# Altium footprint library AltiumOpenLibs.PcbLib: 173 footprints (part 2 of 11)
Each footprint in its own frame and in the unit in brackets; x right, y up, seen from the top. Pads: shape width x height; smd on the part's side, far side on the other; paste and mask are expansions set on the pad; w line width, h text height; cw(c..) or ccw(c..) is an arc to the next point about the centre after c.
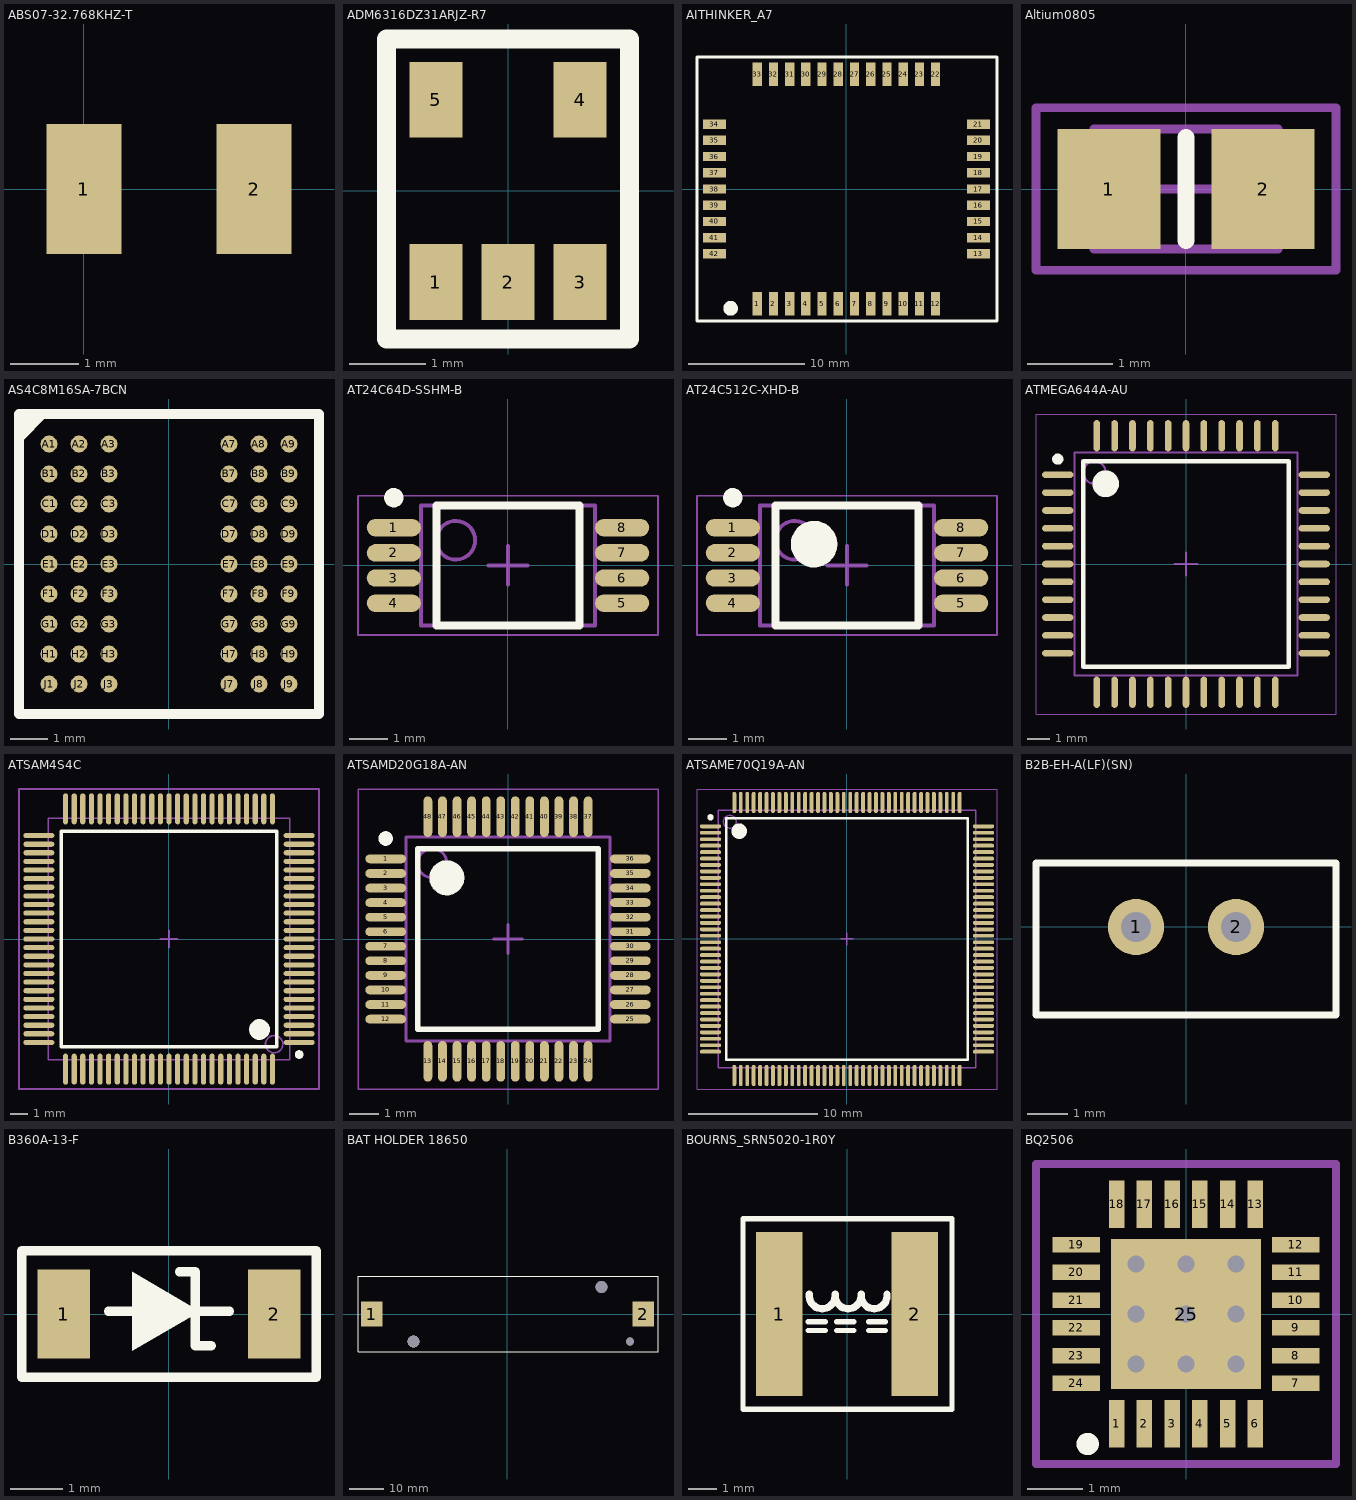
[diagram p1: the footprints below, top view; thin cyan lines are the x and y axes]

## ABS07-32.768KHZ-T [mm]
pads (2):
  rect 1.1x1.9 smd: 1(0,0) 2(2.5,0)
3D body: height 0.9, standoff 0, extent -0.35,-0.7 2.85,0.8

## ADM6316DZ31ARJZ-R7 [mm]
pads (5):
  rect 0.7x1 smd: 1(-0.95,-1.2) 2(0,-1.2) 3(0.95,-1.2) 4(0.95,1.2) 5(-0.95,1.2)
Top Overlay:
  lines w0.254: -1.6,-1.95 1.6,-1.95 1.6,2 -1.6,2 -1.6,-1.7 -1.6,-1.95

## AITHINKER_A7 [mm]
pads (42):
  rect 0.8x2 smd: 1(-7.7,-9.9) 2(-6.3,-9.9) 3(-4.9,-9.9) 4(-3.5,-9.9) 5(-2.1,-9.9) 6(-0.7,-9.9) 7(0.7,-9.9) 8(2.1,-9.9) 9(3.5,-9.9) 10(4.9,-9.9) 11(6.3,-9.9) 12(7.7,-9.9) 22(7.7,9.9) 23(6.3,9.9) 24(4.9,9.9) 25(3.5,9.9) 26(2.1,9.9) 27(0.7,9.9) 28(-0.7,9.9) 29(-2.1,9.9) 30(-3.5,9.9) 31(-4.9,9.9) 32(-6.3,9.9) 33(-7.7,9.9)
  rect 2x0.8 smd: 13(11.4,-5.6) 14(11.4,-4.2) 15(11.4,-2.8) 16(11.4,-1.4) 17(11.4,0) 18(11.4,1.4) 19(11.4,2.8) 20(11.4,4.2) 21(11.4,5.6) 34(-11.4,5.6) 35(-11.4,4.2) 36(-11.4,2.8) 37(-11.4,1.4) 38(-11.4,0) 39(-11.4,-1.4) 40(-11.4,-2.8) 41(-11.4,-4.2) 42(-11.4,-5.6)
Top Overlay:
  circle w0.7: c-10,-10.3 r0.283
  lines w0.254: -12.9,-11.4 -12.9,11.4 -7.4,11.4 13,11.4 13,-11.4 -10.8,-11.4 -12.9,-11.4

## Altium0805 [mm]
pads (2):
  rect 1.2x1.4 smd: 1(-0.9,0) 2(0.9,0)
Top Overlay:
  lines w0.2: 0,-0.6 0,0.6
Mechanical 13:
  lines w0.1: -1.075,-0.7 1.075,-0.7 1.075,0.7 -1.075,0.7 -1.075,-0.7
Mechanical 15:
  lines w0.1: -0.5,0 0.5,0 ; 0,-0.5 0,0.5 ; -1.75,-0.95 1.75,-0.95 1.75,0.95 -1.75,0.95 -1.75,-0.95
3D body: height 0.7, standoff 0, extent -1.075,-0.7 1.075,0.7

## AS4C8M16SA-7BCN [mm]
pads (54):
  round 0.45 smd: A1(-3.2,3.2) A2(-2.4,3.2) A3(-1.6,3.2) A7(1.6,3.2) A8(2.4,3.2) A9(3.2,3.2) B1(-3.2,2.4) B2(-2.4,2.4) B3(-1.6,2.4) B7(1.6,2.4) B8(2.4,2.4) B9(3.2,2.4) C1(-3.2,1.6) C2(-2.4,1.6) C3(-1.6,1.6) C7(1.6,1.6) C8(2.4,1.6) C9(3.2,1.6) D1(-3.2,0.8) D2(-2.4,0.8) D3(-1.6,0.8) D7(1.6,0.8) D8(2.4,0.8) D9(3.2,0.8) E1(-3.2,0) E2(-2.4,0) E3(-1.6,0) E7(1.6,0) E8(2.4,0) E9(3.2,0) F1(-3.2,-0.8) F2(-2.4,-0.8) F3(-1.6,-0.8) F7(1.6,-0.8) F8(2.4,-0.8) F9(3.2,-0.8) G1(-3.2,-1.6) G2(-2.4,-1.6) G3(-1.6,-1.6) G7(1.6,-1.6) G8(2.4,-1.6) G9(3.2,-1.6) H1(-3.2,-2.4) H2(-2.4,-2.4) H3(-1.6,-2.4) H7(1.6,-2.4) H8(2.4,-2.4) H9(3.2,-2.4) J1(-3.2,-3.2) J2(-2.4,-3.2) J3(-1.6,-3.2) J7(1.6,-3.2) J8(2.4,-3.2) J9(3.2,-3.2)
Top Overlay:
  region: -4,4 -3.2,4 -4,3.2
  lines w0.254: -4,-4 -4,4 4,4 4,-4 -4,-4

## AT24C64D-SSHM-B [mm] "TSOP, 8-Leads, Body 3.00x4.40mm, Pitch 0.65mm, IPC Medium Density"
height 1.2
pads (8):
  oval 1.4x0.45 smd: 1(-2.95,0.975) 2(-2.95,0.325) 3(-2.95,-0.325) 4(-2.95,-0.975) 5(2.95,-0.975) 6(2.95,-0.325) 7(2.95,0.325) 8(2.95,0.975)
Top Overlay:
  circle w0.25: c-2.95,1.75 r0.125
  lines w0.2: -1.85,-1.55 -1.85,1.55 1.85,1.55 1.85,-1.55 -1.85,-1.55
Mechanical 13:
  circle w0.1: c-1.35,0.65 r0.5
  lines w0.1: -2.25,-1.55 -2.25,1.55 2.25,1.55 2.25,-1.55 -2.25,-1.55
Mechanical 15:
  lines w0.05: -3.875,-1.8 -3.875,1.8 3.875,1.8 3.875,-1.8 -3.875,-1.8
  lines w0.1: -0.5,0 0.5,0 ; 0,-0.5 0,0.5
3D body: height 1.2, standoff 0.15, extent -2.25,-1.55 2.25,1.55

## AT24C512C-XHD-B [mm] "TSOP, 8-Leads, Body 3.00x4.40mm, Pitch 0.65mm, IPC Medium Density"
height 1.2
pads (8):
  oval 1.4x0.45 smd: 1(-2.95,0.975) 2(-2.95,0.325) 3(-2.95,-0.325) 4(-2.95,-0.975) 5(2.95,-0.975) 6(2.95,-0.325) 7(2.95,0.325) 8(2.95,0.975)
Top Overlay:
  circle w0.25: c-2.95,1.75 r0.125
  circle w0.6: c-0.85,0.55 r0.3
  lines w0.2: -1.85,-1.55 -1.85,1.55 1.85,1.55 1.85,-1.55 -1.85,-1.55
Mechanical 13:
  circle w0.1: c-1.35,0.65 r0.5
  lines w0.1: -2.25,-1.55 -2.25,1.55 2.25,1.55 2.25,-1.55 -2.25,-1.55
Mechanical 15:
  lines w0.05: -3.875,-1.8 -3.875,1.8 3.875,1.8 3.875,-1.8 -3.875,-1.8
  lines w0.1: -0.5,0 0.5,0 ; 0,-0.5 0,0.5
3D body: height 1.2, standoff 0.15, extent -2.25,-1.55 2.25,1.55

## ATMEGA644A-AU [mm] "TQFP, 44-Leads, Body 10.00x10.00mm, Pitch 0.80mm, IPC Medium Density"
height 1.2
pads (44):
  oval 1.4x0.3 smd: 1(-5.75,4) 2(-5.75,3.2) 3(-5.75,2.4) 4(-5.75,1.6) 5(-5.75,0.8) 6(-5.75,0) 7(-5.75,-0.8) 8(-5.75,-1.6) 9(-5.75,-2.4) 10(-5.75,-3.2) 11(-5.75,-4) 23(5.75,-4) 24(5.75,-3.2) 25(5.75,-2.4) 26(5.75,-1.6) 27(5.75,-0.8) 28(5.75,0) 29(5.75,0.8) 30(5.75,1.6) 31(5.75,2.4) 32(5.75,3.2) 33(5.75,4)
  oval 0.3x1.4 smd: 12(-4,-5.75) 13(-3.2,-5.75) 14(-2.4,-5.75) 15(-1.6,-5.75) 16(-0.8,-5.75) 17(0,-5.75) 18(0.8,-5.75) 19(1.6,-5.75) 20(2.4,-5.75) 21(3.2,-5.75) 22(4,-5.75) 34(4,5.75) 35(3.2,5.75) 36(2.4,5.75) 37(1.6,5.75) 38(0.8,5.75) 39(0,5.75) 40(-0.8,5.75) 41(-1.6,5.75) 42(-2.4,5.75) 43(-3.2,5.75) 44(-4,5.75)
Top Overlay:
  circle w0.6: c-3.6,3.6 r0.3
  circle w0.25: c-5.75,4.7 r0.125
  lines w0.2: -4.6,-4.6 4.6,-4.6 4.6,4.6 -4.6,4.6 -4.6,-4.6
Mechanical 13:
  circle w0.1: c-4.1,4.1 r0.5
  lines w0.1: -5,-5 5,-5 5,5 -5,5 -5,-5
Mechanical 15:
  lines w0.05: -6.725,-6.725 6.725,-6.725 6.725,6.725 -6.725,6.725 -6.725,-6.725
  lines w0.1: -0.5,0 0.5,0 ; 0,-0.5 0,0.5
3D body: height 1.2, standoff 0.15, extent -5,-5 5,5

## ATSAM4S4C [mm]
pads (100):
  oval 1.8x0.3 smd: 1(7.55,-6) 2(7.55,-5.5) 3(7.55,-5) 4(7.55,-4.5) 5(7.55,-4) 6(7.55,-3.5) 7(7.55,-3) 8(7.55,-2.5) 9(7.55,-2) 10(7.55,-1.5) 11(7.55,-1) 12(7.55,-0.5) 13(7.55,0) 14(7.55,0.5) 15(7.55,1) 16(7.55,1.5) 17(7.55,2) 18(7.55,2.5) 19(7.55,3) 20(7.55,3.5) 21(7.55,4) 22(7.55,4.5) 23(7.55,5) 24(7.55,5.5) 25(7.55,6) 51(-7.55,6) 52(-7.55,5.5) 53(-7.55,5) 54(-7.55,4.5) 55(-7.55,4) 56(-7.55,3.5) 57(-7.55,3) 58(-7.55,2.5) 59(-7.55,2) 60(-7.55,1.5) 61(-7.55,1) 62(-7.55,0.5) 63(-7.55,0) 64(-7.55,-0.5) 65(-7.55,-1) 66(-7.55,-1.5) 67(-7.55,-2) 68(-7.55,-2.5) 69(-7.55,-3) 70(-7.55,-3.5) 71(-7.55,-4) 72(-7.55,-4.5) 73(-7.55,-5) 74(-7.55,-5.5) 75(-7.55,-6)
  oval 0.3x1.8 smd: 26(6,7.55) 27(5.5,7.55) 28(5,7.55) 29(4.5,7.55) 30(4,7.55) 31(3.5,7.55) 32(3,7.55) 33(2.5,7.55) 34(2,7.55) 35(1.5,7.55) 36(1,7.55) 37(0.5,7.55) 38(0,7.55) 39(-0.5,7.55) 40(-1,7.55) 41(-1.5,7.55) 42(-2,7.55) 43(-2.5,7.55) 44(-3,7.55) 45(-3.5,7.55) 46(-4,7.55) 47(-4.5,7.55) 48(-5,7.55) 49(-5.5,7.55) 50(-6,7.55) 76(-6,-7.55) 77(-5.5,-7.55) 78(-5,-7.55) 79(-4.5,-7.55) 80(-4,-7.55) 81(-3.5,-7.55) 82(-3,-7.55) 83(-2.5,-7.55) 84(-2,-7.55) 85(-1.5,-7.55) 86(-1,-7.55) 87(-0.5,-7.55) 88(0,-7.55) 89(0.5,-7.55) 90(1,-7.55) 91(1.5,-7.55) 92(2,-7.55) 93(2.5,-7.55) 94(3,-7.55) 95(3.5,-7.55) 96(4,-7.55) 97(4.5,-7.55) 98(5,-7.55) 99(5.5,-7.55) 100(6,-7.55)
Top Overlay:
  circle w0.6: c5.25,-5.25 r0.3
  circle w0.25: c7.55,-6.7 r0.125
  lines w0.2: -6.25,-6.25 6.25,-6.25 6.25,6.25 -6.25,6.25 -6.25,-6.25
Mechanical 13:
  circle w0.1: c6.1,-6.1 r0.5
  lines w0.1: -7,-7 7,-7 7,7 -7,7 -7,-7
Mechanical 15:
  lines w0.1: -0.5,0 0.5,0 ; 0,-0.5 0,0.5 ; -8.7,-8.7 8.7,-8.7 8.7,8.7 -8.7,8.7 -8.7,-8.7
3D body: height 1.6, standoff 0, extent -7,-7 7,7

## ATSAMD20G18A-AN [mm] "TSQFP, 48-Leads, Body 7.00x7.00mm, Pitch 0.50mm, IPC Medium Density"
height 1.2
pads (48):
  oval 1.4x0.3 smd: 1(-4.2,2.75) 2(-4.2,2.25) 3(-4.2,1.75) 4(-4.2,1.25) 5(-4.2,0.75) 6(-4.2,0.25) 7(-4.2,-0.25) 8(-4.2,-0.75) 9(-4.2,-1.25) 10(-4.2,-1.75) 11(-4.2,-2.25) 12(-4.2,-2.75) 25(4.2,-2.75) 26(4.2,-2.25) 27(4.2,-1.75) 28(4.2,-1.25) 29(4.2,-0.75) 30(4.2,-0.25) 31(4.2,0.25) 32(4.2,0.75) 33(4.2,1.25) 34(4.2,1.75) 35(4.2,2.25) 36(4.2,2.75)
  oval 0.3x1.4 smd: 13(-2.75,-4.2) 14(-2.25,-4.2) 15(-1.75,-4.2) 16(-1.25,-4.2) 17(-0.75,-4.2) 18(-0.25,-4.2) 19(0.25,-4.2) 20(0.75,-4.2) 21(1.25,-4.2) 22(1.75,-4.2) 23(2.25,-4.2) 24(2.75,-4.2) 37(2.75,4.2) 38(2.25,4.2) 39(1.75,4.2) 40(1.25,4.2) 41(0.75,4.2) 42(0.25,4.2) 43(-0.25,4.2) 44(-0.75,4.2) 45(-1.25,4.2) 46(-1.75,4.2) 47(-2.25,4.2) 48(-2.75,4.2)
Top Overlay:
  circle w0.25: c-4.2,3.45 r0.125
  circle w0.6: c-2.1,2.1 r0.3
  lines w0.2: -3.1,-3.1 -3.1,3.1 3.1,3.1 3.1,-3.1 -3.1,-3.1
Mechanical 13:
  circle w0.1: c-2.6,2.6 r0.5
  lines w0.1: -3.5,-3.5 -3.5,3.5 3.5,3.5 3.5,-3.5 -3.5,-3.5
Mechanical 15:
  lines w0.05: -5.15,-5.15 -5.15,5.15 5.15,5.15 5.15,-5.15 -5.15,-5.15
  lines w0.1: -0.5,0 0.5,0 ; 0,-0.5 0,0.5
3D body: height 1.2, standoff 0.05, extent -3.5,-3.5 3.5,3.5

## ATSAME70Q19A-AN [mm] "TSQFP, 144-Leads, Body 20,00x20,00mm, Pitch 0,50mm, IPC Medium Density"
height 1.6
pads (144):
  oval 1.65x0.3 smd: 1(-10.6,8.75) 2(-10.6,8.25) 3(-10.6,7.75) 4(-10.6,7.25) 5(-10.6,6.75) 6(-10.6,6.25) 7(-10.6,5.75) 8(-10.6,5.25) 9(-10.6,4.75) 10(-10.6,4.25) 11(-10.6,3.75) 12(-10.6,3.25) 13(-10.6,2.75) 14(-10.6,2.25) 15(-10.6,1.75) 16(-10.6,1.25) 17(-10.6,0.75) 18(-10.6,0.25) 19(-10.6,-0.25) 20(-10.6,-0.75) 21(-10.6,-1.25) 22(-10.6,-1.75) 23(-10.6,-2.25) 24(-10.6,-2.75) 25(-10.6,-3.25) 26(-10.6,-3.75) 27(-10.6,-4.25) 28(-10.6,-4.75) 29(-10.6,-5.25) 30(-10.6,-5.75) 31(-10.6,-6.25) 32(-10.6,-6.75) 33(-10.6,-7.25) 34(-10.6,-7.75) 35(-10.6,-8.25) 36(-10.6,-8.75) 73(10.6,-8.75) 74(10.6,-8.25) 75(10.6,-7.75) 76(10.6,-7.25) 77(10.6,-6.75) 78(10.6,-6.25) 79(10.6,-5.75) 80(10.6,-5.25) 81(10.6,-4.75) 82(10.6,-4.25) 83(10.6,-3.75) 84(10.6,-3.25) 85(10.6,-2.75) 86(10.6,-2.25) 87(10.6,-1.75) 88(10.6,-1.25) 89(10.6,-0.75) 90(10.6,-0.25) 91(10.6,0.25) 92(10.6,0.75) 93(10.6,1.25) 94(10.6,1.75) 95(10.6,2.25) 96(10.6,2.75) 97(10.6,3.25) 98(10.6,3.75) 99(10.6,4.25) 100(10.6,4.75) 101(10.6,5.25) 102(10.6,5.75) 103(10.6,6.25) 104(10.6,6.75) 105(10.6,7.25) 106(10.6,7.75) 107(10.6,8.25) 108(10.6,8.75)
  oval 0.3x1.65 smd: 37(-8.75,-10.6) 38(-8.25,-10.6) 39(-7.75,-10.6) 40(-7.25,-10.6) 41(-6.75,-10.6) 42(-6.25,-10.6) 43(-5.75,-10.6) 44(-5.25,-10.6) 45(-4.75,-10.6) 46(-4.25,-10.6) 47(-3.75,-10.6) 48(-3.25,-10.6) 49(-2.75,-10.6) 50(-2.25,-10.6) 51(-1.75,-10.6) 52(-1.25,-10.6) 53(-0.75,-10.6) 54(-0.25,-10.6) 55(0.25,-10.6) 56(0.75,-10.6) 57(1.25,-10.6) 58(1.75,-10.6) 59(2.25,-10.6) 60(2.75,-10.6) 61(3.25,-10.6) 62(3.75,-10.6) 63(4.25,-10.6) 64(4.75,-10.6) 65(5.25,-10.6) 66(5.75,-10.6) 67(6.25,-10.6) 68(6.75,-10.6) 69(7.25,-10.6) 70(7.75,-10.6) 71(8.25,-10.6) 72(8.75,-10.6) 109(8.75,10.6) 110(8.25,10.6) 111(7.75,10.6) 112(7.25,10.6) 113(6.75,10.6) 114(6.25,10.6) 115(5.75,10.6) 116(5.25,10.6) 117(4.75,10.6) 118(4.25,10.6) 119(3.75,10.6) 120(3.25,10.6) 121(2.75,10.6) 122(2.25,10.6) 123(1.75,10.6) 124(1.25,10.6) 125(0.75,10.6) 126(0.25,10.6) 127(-0.25,10.6) 128(-0.75,10.6) 129(-1.25,10.6) 130(-1.75,10.6) 131(-2.25,10.6) 132(-2.75,10.6) 133(-3.25,10.6) 134(-3.75,10.6) 135(-4.25,10.6) 136(-4.75,10.6) 137(-5.25,10.6) 138(-5.75,10.6) 139(-6.25,10.6) 140(-6.75,10.6) 141(-7.25,10.6) 142(-7.75,10.6) 143(-8.25,10.6) 144(-8.75,10.6)
Top Overlay:
  circle w0.6: c-8.375,8.375 r0.3
  circle w0.25: c-10.6,9.45 r0.125
  lines w0.2: -9.375,-9.375 9.375,-9.375 9.375,9.375 -9.375,9.375 -9.375,-9.375
Mechanical 13:
  circle w0.1: c-9.1,9.1 r0.5
  lines w0.1: -10,-10 10,-10 10,10 -10,10 -10,-10
Mechanical 15:
  lines w0.05: -11.65,-11.65 11.65,-11.65 11.65,11.65 -11.65,11.65 -11.65,-11.65
  lines w0.1: -0.5,0 0.5,0 ; 0,-0.5 0,0.5
3D body "QFP50P2200X2200X160-144N LQFP-144.stp": height 1.6, standoff 0, extent -11,-11 11,11

## B2B-EH-A(LF)(SN) [mm]
pads (2):
  round 1.4 hole 0.75: 1(-1.25,0) 2(1.25,0)
Top Overlay:
  lines w0.178: -3.75,-2.2 3.75,-2.2 3.75,1.6 -3.75,1.6 -3.75,-2.2

## B360A-13-F [mm]
pads (2):
  rect 1x1.7 smd: 1(-2,0) 2(2,0)
Top Overlay:
  region: -0.7,0.8 -0.7,-0.7 0.5,0 0.5,0.1
  lines w0.178: -1.15,0.05 -0.7,0.05 ; 0.2,0.8 0.5,0.8 0.5,-0.6 0.8,-0.6 ; 0.5,0.05 1.15,0.05 ; -2.8,-1.2 -2.8,1.2 2.8,1.2 2.8,-1.2 -2.8,-1.2

## BAT HOLDER 18650 [mm]
pads (2):
  rect 6.35x7.34 smd: 1(-39.83,0) 2(39.83,0)
via 35.93,-8 diameter 2.4 hole 2.4
via 27.6,8 diameter 3.5 hole 3.5
via -27.6,-8 diameter 3.5 hole 3.5
Top Overlay:
  lines w0.254: -43.9,-11 44.2,-11 44.2,11.1 -43.9,11.1 -43.9,-11

## BOURNS_SRN5020-1R0Y [mm]
pads (2):
  rect 1.6x5.7 smd: 1(-2.35,0) 2(2.35,0)
Top Overlay:
  lines w0.178: -1.35,-0.57 -0.75,-0.57 ; -1.35,-0.27 -0.75,-0.27 ; -0.36,-0.57 0.24,-0.57 ; -0.36,-0.27 0.24,-0.27 ; 0.74,-0.57 1.34,-0.57 ; 0.74,-0.27 1.34,-0.27 ; -3.6,-3.3 3.64,-3.3 3.64,3.3 -3.6,3.3 -3.6,-3.3
  lines w0.254: -1.304,0.685 ccw(c-0.86,0.63) -0.416,0.685 ; -0.404,0.685 ccw(c0.04,0.63) 0.484,0.685 ; 0.496,0.685 ccw(c0.94,0.63) 1.384,0.685

## BQ2506 [mm]
pads (25):
  rect 0.28x0.85 smd mask+0.07: 1(-1.25,-1.975) 2(-0.75,-1.975) 3(-0.25,-1.975) 4(0.25,-1.975) 5(0.75,-1.975) 6(1.25,-1.975) 13(1.25,1.975) 14(0.75,1.975) 15(0.25,1.975) 16(-0.25,1.975) 17(-0.75,1.975) 18(-1.25,1.975)
  rect 0.85x0.28 smd mask+0.07: 7(1.975,-1.25) 8(1.975,-0.75) 9(1.975,-0.25) 10(1.975,0.25) 11(1.975,0.75) 12(1.975,1.25) 19(-1.975,1.25) 20(-1.975,0.75) 21(-1.975,0.25) 22(-1.975,-0.25) 23(-1.975,-0.75) 24(-1.975,-1.25)
  rect 2.7x2.7 all layers, no hole paste-2.7 mask+0.07: 25(0,0)
via -0.9,0.9 diameter 0.6 hole 0.3
via -0.9,0 diameter 0.6 hole 0.3
via -0.9,-0.9 diameter 0.6 hole 0.3
via 0,-0.9 diameter 0.6 hole 0.3
via 0,0 diameter 0.6 hole 0.3
via 0,0.9 diameter 0.6 hole 0.3
via 0.9,-0.9 diameter 0.6 hole 0.3
via 0.9,0 diameter 0.6 hole 0.3
via 0.9,0.9 diameter 0.6 hole 0.3
Top Overlay:
  circle w0.254: c-1.77,-2.34 r0.073
Top Paste:
  rectangle: -1.25,0.15 -0.15,1.25
  rectangle: -1.25,-1.25 -0.15,-0.15
  rectangle: 0.15,-1.25 1.25,-0.15
  rectangle: 0.15,0.15 1.25,1.25
Mechanical 15:
  lines w0.15: -2.7,-2.7 -2.7,2.7 2.7,2.7 2.7,-2.7 -2.7,-2.7
3D body "QFN24(4X4).STEP": height 0.9, standoff 0, extent -2.002,-2.011 2.018,2.009